# EAGLE library part NCS2333 (library BW-Active)
Dual op amp, very low offset voltage
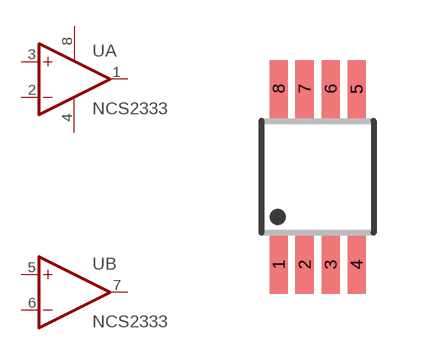
[diagram p37: symbol with the pads of MSOP8; footprint MSOP8]

Designator prefix U; gates A=OPAMP+- B=OPAMP

## NCS2333  [MSOP8]
1  A:OUT  out
2  A:-IN  in
3  A:+IN  in
4  A:V-  pwr
5  B:+IN  in
6  B:-IN  in
7  B:OUT  out
8  A:V+  pwr

## Footprint MSOP8 (pad centres in mm)
Micro Small Outline Package Grid .65mm
smd 0.45 x 1.45: 1 -0.975,-2.2; 2 -0.325,-2.2; 3 0.325,-2.2; 4 0.975,-2.2; 5 0.975,2.2; 6 0.325,2.2; 7 -0.325,2.2; 8 -0.975,2.2